# Altium footprint library adafruit.PCBLIB: 630 footprints (part 23 of 40)
Each footprint in its own frame and in the unit in brackets; x right, y up, seen from the top. Pads: shape width x height; smd on the part's side, far side on the other; paste and mask are expansions set on the pad; w line width, h text height; cw(c..) or ccw(c..) is an arc to the next point about the centre after c.
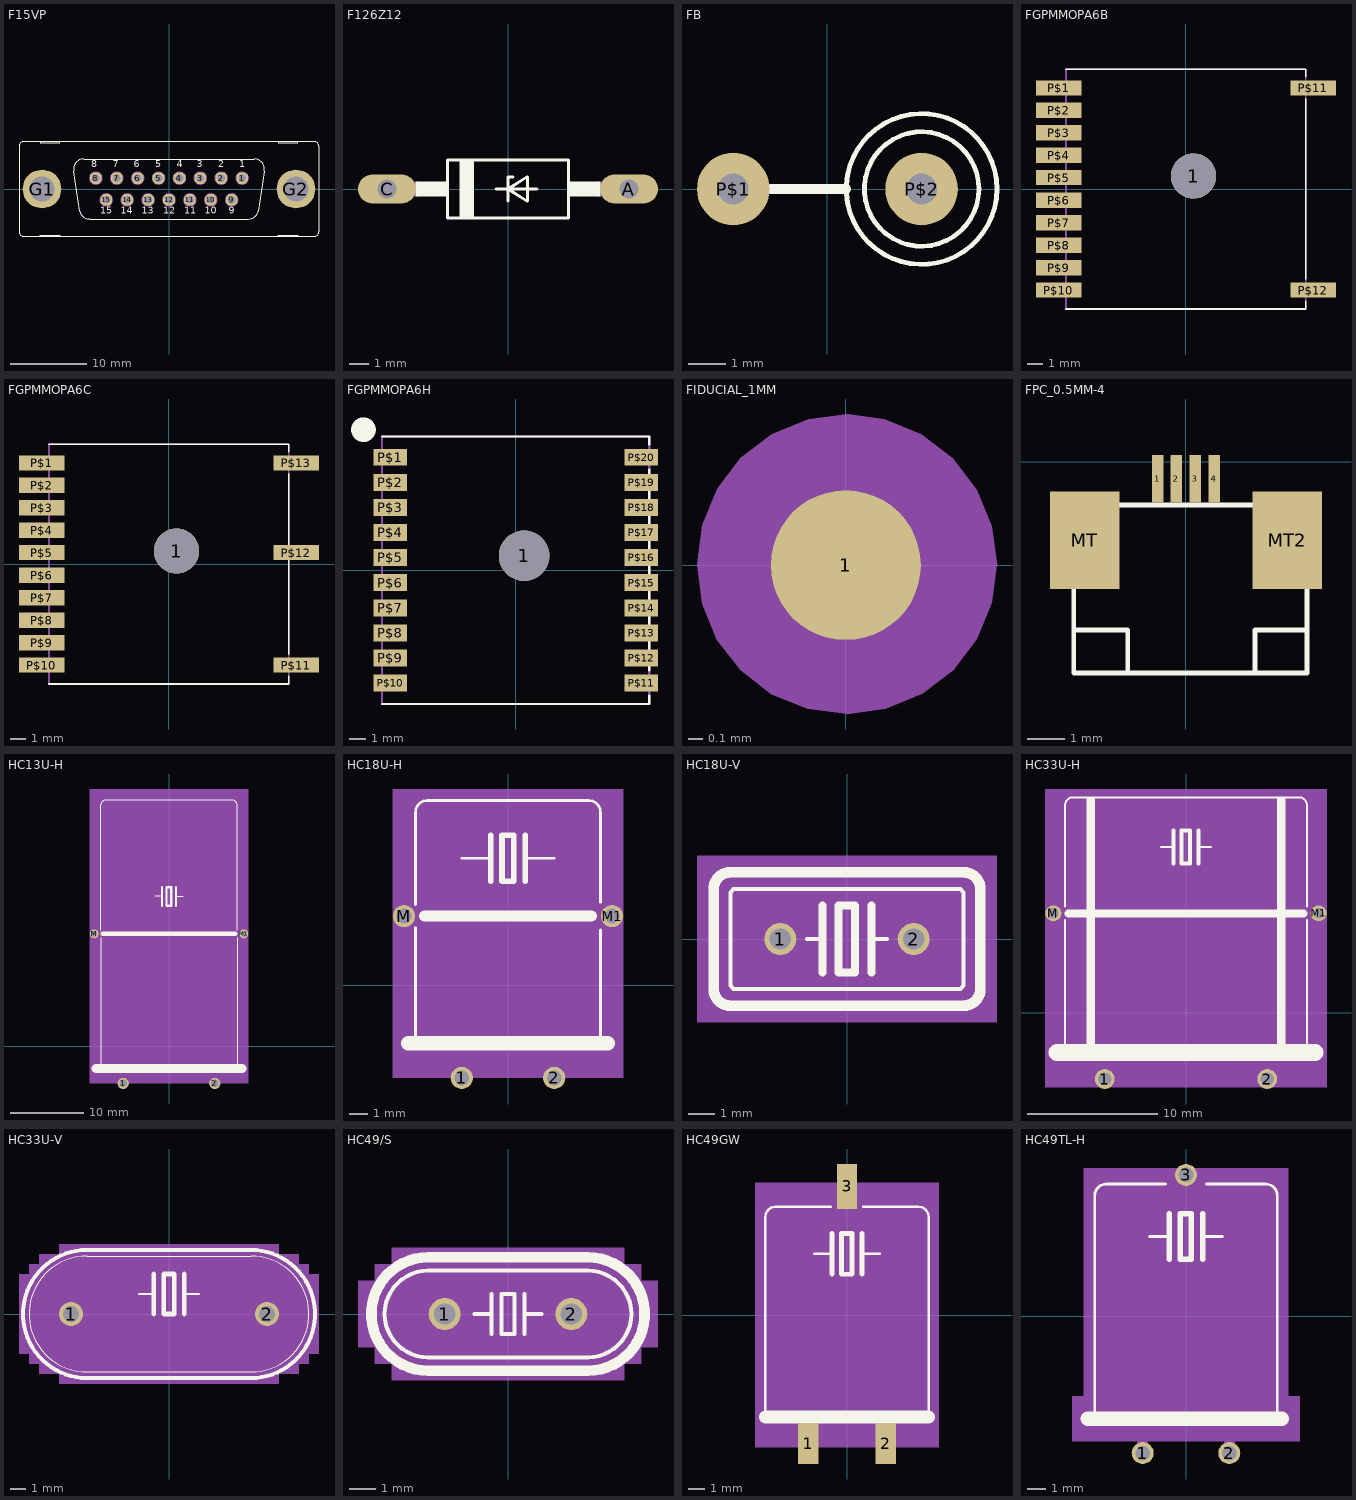
[diagram p22: the footprints below, top view; thin cyan lines are the x and y axes]

## F15VP [mil]
pads (17):
  oct 60x60 hole 40: 1(378,56) 2(270,56) 3(162,56) 4(54,56) 5(-54,56) 6(-162,56) 7(-270,56) 8(-378,56) 9(324,-56) 10(216,-56) 11(108,-56) 12(0,-56) 13(-108,-56) 14(-216,-56) 15(-324,-56)
  round 200 hole 130: G1(-656,0) G2(656,0)
Top Overlay:
  circle w6: c-656,0 r65
  circle w6: c656,0 r65
  lines w6: -492,92 -461,-116 ; -491.97,92 cw(c-440.16,102.2) -440,155 440,155 cw(c440.22,102.06) 492,91 461,-115 ; -461.3,-115.33 ccw(c-410,-102) -410,-155 410,-155 ccw(c410.23,-101.7) 462,-114.37 ; -665,-245 -665,-240 -565,-240 -565,-245 ; -665,-245 -565,-245 ; -665,-245 -750,-245 cw(c-750,-220) -775,-220 -775,220 cw(c-750,220) -750,245 -665,245 ; -665,245 -665,240 -565,240 -565,245 ; -665,245 -565,245 ; -565,-245 565,-245 ; -565,245 565,245 ; 565,-245 565,-240 665,-240 665,-245 ; 565,-245 665,-245 ; 565,245 565,240 665,240 665,245 ; 565,245 665,245 ; 665,-245 750,-245 ccw(c750,-220) 775,-220 775,220 ccw(c750,220) 750,245 665,245
  text "1" at 364,100 h60.45
  text "2" at 254,100 h60.45
  text "3" at 144,100 h60.45
  text "4" at 39,100 h60.45
  text "5" at -71,100 h60.45
  text "6" at -181,100 h60.45
  text "7" at -291,100 h60.45
  text "8" at -401,100 h60.45
  text "9" at 309,-140 h60.45
  text "10" at 185,-140 h60.45
  text "11" at 80,-140 h60.45
  text "12" at -30,-140 h60.45
  text "13" at -140,-140 h60.45
  text "14" at -250,-140 h60.45
  text "15" at -355,-140 h60.45
Mechanical 16:
  circle w10: c108,-56 r30
  circle w10: c162,56 r30
  circle w10: c216,-56 r30
  circle w10: c270,56 r30
  circle w10: c54,56 r30
  circle w10: c0,-56 r30
  circle w10: c-54,56 r30
  circle w10: c-108,-56 r30
  circle w10: c-162,56 r30
  circle w10: c378,56 r30
  circle w10: c324,-56 r30
  circle w10: c-270,56 r30
  circle w10: c-378,56 r30
  circle w10: c-216,-56 r30
  circle w10: c-324,-56 r30

## F126Z12 [mil]
pads (2):
  oval 120x60 hole 40: A(250,0) C(-250,0)
Top Overlay:
  rectangle: -100,-60 -70,60
  rectangle: -191,-16 -125,16
  rectangle: 125,-16 191,16
  lines w6: -25,0 0,0 ; 0,-25 0,0 ; 10,25 0,25 0,0 ; 60,0 0,0 ; 0,0 40,-25 40,25 0,0 ; -125,-60 125,-60 125,60 -125,60 -125,-60
Mechanical 16:
  lines w32: -250,0 -190,0 ; 190,0 250,0

## FB [mil]
pads (2):
  round 76 hole 32: P$1(-98.43,0) P$2(99,0)
Top Overlay:
  circle w5: c99,0 r79
  circle w5: c99,0 r60
  lines w10: -59.06,0 20,0

## FGPMMOPA6B [mil]
pads (13):
  round 119 hole 119: 1(20,34)
  rect 119x40 smd: P$1(-334.65,266) P$2(-334.65,207) P$3(-334.65,148) P$4(-334.65,89) P$5(-334.65,30) P$6(-334.65,-29.53) P$7(-334.65,-88.58) P$8(-334.65,-147.64) P$9(-334.65,-206.69) P$10(-334.65,-265.75) P$11(335,266) P$12(335,-265.75)
Top Overlay:
  lines w5: -314.96,-314.96 315,-314.96 315,-295.28 ; -314.96,315 315,315 315,296 ; 315,-236.22 315,237
Mechanical 16:
  circle w32: c20,34 r20
  lines w5: -314.96,-314.96 315,-314.96 315,315 -314.96,315 -314.96,-314.96

## FGPMMOPA6C [mil]
pads (14):
  round 119 hole 119: 1(20,34)
  rect 119x40 smd: P$1(-334.65,266) P$2(-334.65,207) P$3(-334.65,148) P$4(-334.65,89) P$5(-334.65,30) P$6(-334.65,-29.53) P$7(-334.65,-88.58) P$8(-334.65,-147.64) P$9(-334.65,-206.69) P$10(-334.65,-265.75) P$11(335,-265.75) P$12(335,30) P$13(335,266)
Top Overlay:
  lines w5: -314.96,-314.96 315,-314.96 315,-295.28 ; -314.96,315 315,315 315,296 ; 315,-236.22 315,237
Mechanical 16:
  circle w32: c20,34 r20
  lines w5: -314.96,-314.96 315,-314.96 315,315 -314.96,315 -314.96,-314.96

## FGPMMOPA6H [mil]
pads (21):
  round 119 hole 119: 1(20,34)
  rect 79x40 smd: P$1(-295.28,266) P$2(-295.28,207) P$3(-295.28,148) P$4(-295.28,89) P$5(-295.28,30) P$6(-295.28,-29.53) P$7(-295.28,-88.58) P$8(-295.28,-147.64) P$9(-295.28,-206.69) P$10(-295.28,-265.75) P$11(296,-265.75) P$12(296,-206.69) P$13(296,-147.64) P$14(296,-88.58) P$15(296,-29.53) P$16(296,30) P$17(296,89) P$18(296,148) P$19(296,207) P$20(296,266)
Top Overlay:
  circle w32: c-358.27,331 r13
  lines w5: -314.96,-314.96 315,-314.96 315,-295.28 ; -314.96,315 315,315 315,296 ; 315,-236.22 315,237
Mechanical 16:
  circle w32: c20,34 r20
  lines w5: -314.96,-314.96 315,-314.96 315,315 -314.96,315 -314.96,-314.96

## FIDUCIAL_1MM [mil]
pads (1):
  rrect100% 40x40 smd: 1(0,0)
Top Solder:
  region: -39.71,0 -39.71,-0.01 -38.36,-10.28 -34.39,-19.86 -28.08,-28.08 -19.86,-34.39 -10.28,-38.36 -0.01,-39.71 0,-39.71 0,-39.67 0.32,-39.71 10.68,-38.35 20.33,-34.35 28.62,-27.99 34.98,-19.7 38.98,-10.05 40.3,0 40.34,0 40.35,0.01 38.97,10.45 34.94,20.18 28.53,28.53 20.18,34.94 10.45,38.97 0.01,40.35 0,40.34 0,40.3 -10.05,38.98 -19.7,34.98 -27.99,28.62 -34.35,20.33 -38.35,10.68 -39.71,0.32 -39.67,0
Mechanical 8:
  region: -39.71,0 -39.71,-0.01 -38.36,-10.28 -34.39,-19.86 -28.08,-28.08 -19.86,-34.39 -10.28,-38.36 -0.01,-39.71 0,-39.71 0,-39.67 0.32,-39.71 10.68,-38.35 20.33,-34.35 28.62,-27.99 34.98,-19.7 38.98,-10.05 40.3,0 40.34,0 40.35,0.01 38.97,10.45 34.94,20.18 28.53,28.53 20.18,34.94 10.45,38.97 0.01,40.35 0,40.34 0,40.3 -10.05,38.98 -19.7,34.98 -27.99,28.62 -34.35,20.33 -38.35,10.68 -39.71,0.32 -39.67,0

## FPC_0.5MM-4 [mil]
pads (6):
  rect 12x50 smd: 1(-29.53,-17.72) 2(-9.84,-17.72) 3(10,-17.72) 4(30,-17.72)
  rect 73x103 smd: MT(-106.3,-82.68) MT2(107,-82.68)
Top Overlay:
  lines w5: -61.02,-220.47 -61.02,-177.17 -118.11,-177.17 ; 73,-220.47 73,-177.17 126,-177.17 ; -118.11,-177.17 -118.11,-222.44 128,-222.44 128,-64.96 109,-45.28 -96.46,-45.28 -118.11,-66.93 -118.11,-177.17

## HC13U-H [mil]
pads (4):
  round 60 hole 40: 1(-245,-200) 2(245,-200)
  round 48 hole 32: M(-400,600) M1(400,600)
Top Overlay:
  lines w6: -365,-120 -365,580 ; -365,620 -365,1290 cw(c-340,1290) -340,1315 340,1315 cw(c340,1290) 365,1290 365,620 ; -75,800 -37,800 ; 37,800 75,800 ; 365,-120 365,580
  lines w12: -37,750 -37,800 -37,850 ; 37,750 37,800 37,850 ; -13,750 -13,850 12,850 12,750 -13,750
  lines w24: -355,600 355,600
  lines w50: -390,-120 -365,-120 365,-120 390,-120
Mechanical 10:
  rectangle: -425,-200 425,1375
Mechanical 16:
  lines w6: -365,580 -365,620 ; 365,580 365,620
  lines w24: -400,600 -360,600 ; 360,600 400,600
  lines w32: -245,-200 -245,-125 ; 245,-200 245,-125

## HC18U-H [mil]
pads (4):
  round 48 hole 32: 1(-100,-200) 2(100,-200) M(-225,150) M1(225,150)
Top Overlay:
  lines w6: -200,-125 -200,125 ; -200,175 -200,375 cw(c-175,375) -175,400 175,400 cw(c175,375) 200,375 200,180 ; -100,275 -37,275 ; 37,275 100,275 ; 200,-125 200,120
  lines w12: -37,225 -37,275 -37,325 ; 37,225 37,275 37,325 ; -13,225 -13,325 12,325 12,225 -13,225
  lines w24: -180,150 180,150
  lines w32: -215,-125 -200,-125 200,-125 215,-125
Mechanical 10:
  rectangle: -250,-200 250,425
Mechanical 16:
  lines w6: -200,125 -200,175 ; 200,120 200,150 200,180
  lines w24: -225,150 -185,150 ; -100,-200 -100,-130 ; 100,-200 100,-130 ; 180,150 200,150 225,150

## HC18U-V [mil]
pads (2):
  round 48 hole 32: 1(-100,0) 2(100,0)
Top Overlay:
  lines w6: -60,0 -37,0 ; 37,0 60,0 ; -175,-70 -175,70 -170,75 170,75 175,70 175,-70 170,-75 -170,-75 -175,-70
  lines w12: -37,-50 -37,0 -37,50 ; 37,-50 37,0 37,50 ; -13,-50 -13,50 12,50 12,-50 -13,-50
  lines w16: -200,-75 -200,75 cw(c-175,75) -175,100 175,100 cw(c175,75) 200,75 200,-75 cw(c175,-75) 175,-100 -175,-100 cw(c-175,-75) -200,-75
Mechanical 10:
  rectangle: -225,-125 225,125

## HC33U-H [mil]
pads (4):
  round 60 hole 40: 1(-245,-200) 2(245,-200)
  round 48 hole 32: M(-400,300) M1(400,300)
Top Overlay:
  rectangle: -300,-125 -275,650
  rectangle: 275,-125 300,650
  lines w6: -365,-120 -365,280 ; -365,320 -365,625 cw(c-340,625) -340,650 340,650 cw(c340,625) 365,625 365,320 ; -75,500 -37,500 ; 37,500 75,500 ; 365,-120 365,280
  lines w12: -37,450 -37,500 -37,550 ; 37,450 37,500 37,550 ; -13,450 -13,550 12,550 12,450 -13,450
  lines w24: -355,300 355,300
  lines w50: -390,-120 -365,-120 365,-120 390,-120
Mechanical 10:
  rectangle: -425,-225 425,675
Mechanical 16:
  lines w6: -365,280 -365,320 ; 365,280 365,320
  lines w24: -400,300 -360,300 ; 360,300 400,300
  lines w32: -245,-200 -245,-125 ; 245,-200 245,-125

## HC33U-V [mil]
pads (2):
  round 60 hole 40: 1(-245,0) 2(245,0)
Top Overlay:
  lines w2: -205,-145 205,-145 ccw(c205,0) 205,145 -205,145 ccw(c-205,0) -205,-145
  lines w6: -75,50 -38,50 ; 38,50 75,50
  lines w10: -205,-160 205,-160 ccw(c205,0) 205,160 -205,160 ccw(c-205,0) -205,-160
  lines w12: -38,0 -38,50 -38,100 ; 38,0 38,50 38,100 ; -13,0 -13,100 13,100 13,0 -13,0
Mechanical 10:
  rectangle: -325,-150 -275,150
  rectangle: -350,-125 -325,125
  rectangle: -375,-100 -350,100
  rectangle: -275,-175 275,175
  rectangle: 275,-150 325,150
  rectangle: 325,-125 350,125
  rectangle: 350,-100 375,100

## HC49/S [mil]
pads (2):
  round 48 hole 32: 1(-95,0) 2(95,0)
Top Overlay:
  lines w6: -50,0 -25,0 ; -25,-30 -25,0 ; -25,30 -25,0 ; 25,-30 25,0 ; 25,30 25,0 ; 50,0 25,0 ; -120,-65 120,-65 ccw(c120,0) 120,65 -120,65 ccw(c-120,0) -120,-65 ; -10,-30 10,-30 10,30 -10,30 -10,-30
  lines w16: -120,-85 120,-85 ccw(c120,0) 120,85 -120,85 ccw(c-120,0) -120,-85
Mechanical 10:
  rectangle: -175,-100 175,100
  rectangle: -200,-75 -175,75
  rectangle: -225,-50 -200,50
  rectangle: 175,-75 200,75
  rectangle: 200,-50 225,50

## HC49GW [mil]
pads (3):
  rect 50x100 smd: 1(-95,-315) 2(95,-315)
  rect 50x110 smd: 3(0,315)
Top Overlay:
  lines w6: -200,-250 -200,240 cw(c-175,240) -175,265 -40,265 ; -80,150 -37,150 ; 37,150 80,150 ; 40,265 175,265 cw(c175,240) 200,240 200,-250
  lines w12: -37,100 -37,150 -37,200 ; 37,100 37,150 37,200 ; -13,100 -13,200 12,200 12,100 -13,100
  lines w32: -200,-250 200,-250
Mechanical 10:
  rectangle: -225,-325 225,325
Mechanical 16:
  lines w6: -40,265 40,265
  lines w24: -95,-325 -95,-260 ; 0,275 0,330 ; 95,-330 95,-255

## HC49TL-H [mil]
pads (3):
  round 48 hole 32: 1(-95,-300) 2(95,-300) 3(0,310)
Top Overlay:
  lines w6: -200,-225 -200,265 cw(c-175,265) -175,290 -45,290 ; -80,175 -37,175 ; 37,175 80,175 ; 45,290 175,290 cw(c175,265) 200,265 200,-225
  lines w12: -37,125 -37,175 -37,225 ; 37,125 37,175 37,225 ; -13,125 -13,225 12,225 12,125 -13,125
  lines w32: -215,-225 210,-225
Mechanical 10:
  rectangle: -250,-275 250,-175
  rectangle: -225,-175 225,325
Mechanical 16:
  rectangle: -12,290 12,298
  lines w6: -45,290 45,290
  lines w24: -95,-300 -95,-230 ; 0,300 0,310 ; 95,-300 95,-230